# Altium footprint library D.PcbLib: 43 footprints (part 3 of 3)
Each footprint in its own frame and in the unit in brackets; x right, y up, seen from the top. Pads: shape width x height; smd on the part's side, far side on the other; paste and mask are expansions set on the pad; w line width, h text height; cw(c..) or ccw(c..) is an arc to the next point about the centre after c.
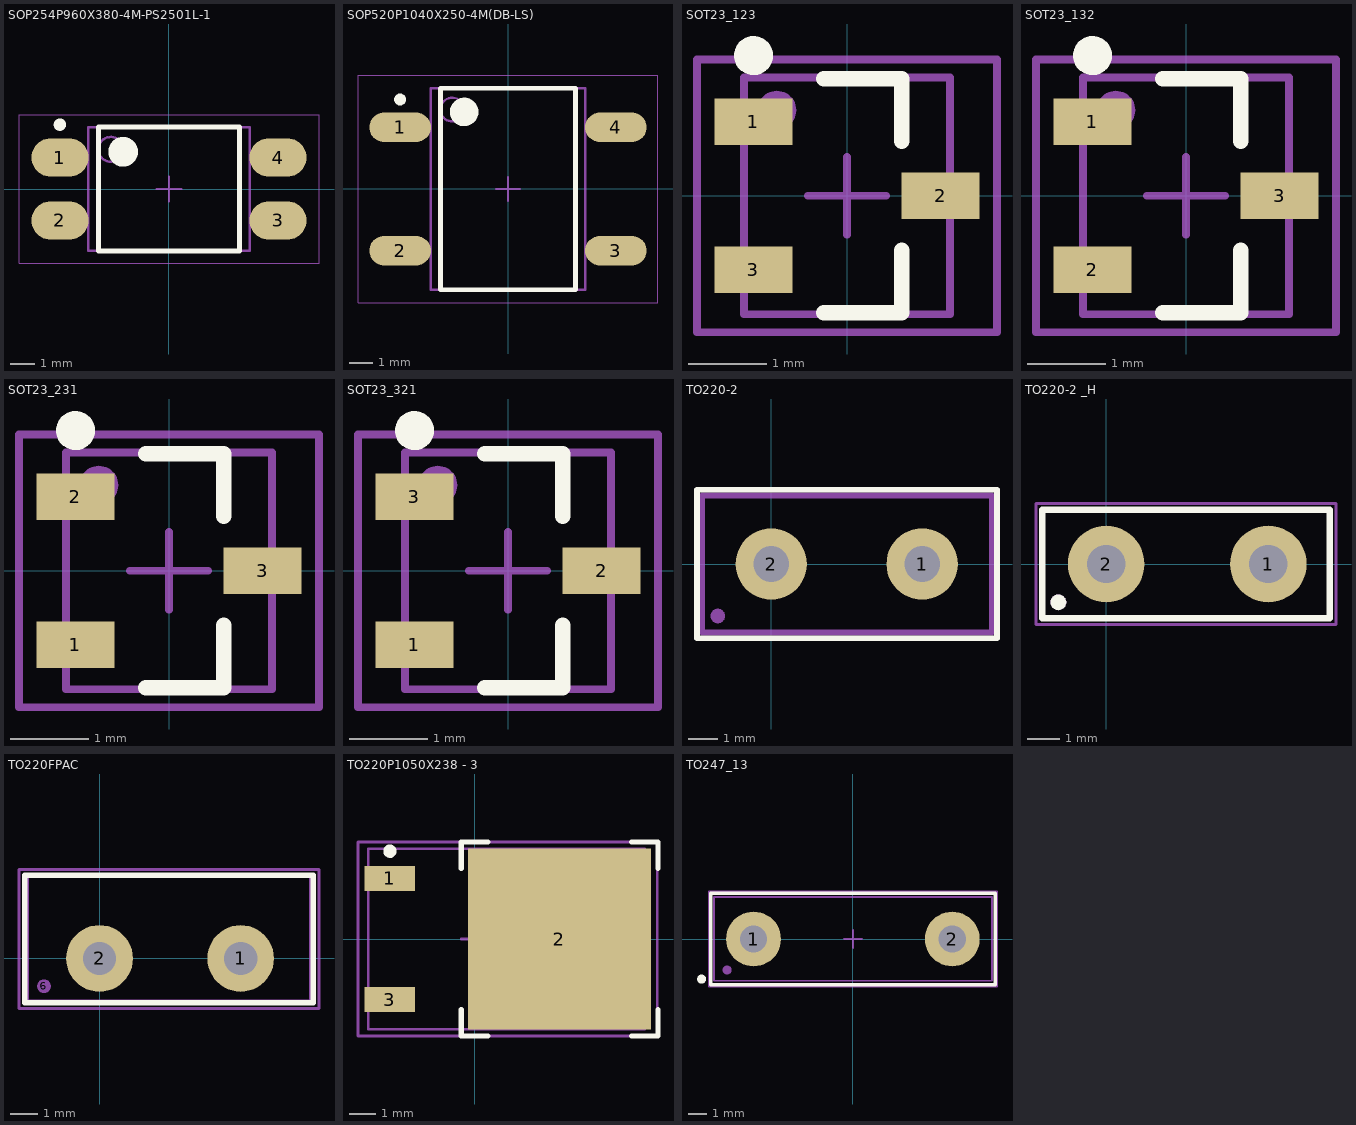
[diagram p2: the footprints below, top view; thin cyan lines are the x and y axes]

## SOP254P960X380-4M-PS2501L-1 [mm] "SOP, 4-Leads, Body 4,60x6,50mm, Pitch 2,54mm, IPC Low Density"
height 3.8
pads (4):
  oval 2.3x1.55 smd: 1(-4.4,1.27) 2(-4.4,-1.27) 3(4.4,-1.27) 4(4.4,1.27)
Top Overlay:
  circle w0.6: c-1.85,1.5 r0.3
  circle w0.25: c-4.4,2.595 r0.125
  lines w0.2: -2.85,-2.5 2.85,-2.5 2.85,2.5 -2.85,2.5 -2.85,-2.5
3D:
  circle w0.1: c-2.35,1.6 r0.5
  lines w0.1: -3.25,-2.5 3.25,-2.5 3.25,2.5 -3.25,2.5 -3.25,-2.5
Border:
  lines w0.05: -6.05,-3 6.05,-3 6.05,3 -6.05,3 -6.05,-3
  lines w0.1: -0.5,0 0.5,0 ; 0,-0.5 0,0.5
3D body: height 3.8, standoff 0.05, extent -3.25,-2.5 3.25,2.5

## SOP520P1040X250-4M(DB-LS) [mm] "SOP, 4-Leads, Body 8,51x6,50mm, Pitch 5,20mm, IPC Low Density"
height 2.5
pads (4):
  oval 2.6x1.25 smd: 1(-4.55,2.6) 2(-4.55,-2.6) 3(4.55,-2.6) 4(4.55,2.6)
Top Overlay:
  circle w0.6: c-1.85,3.25 r0.3
  circle w0.25: c-4.55,3.775 r0.125
  lines w0.2: -2.85,-4.25 2.85,-4.25 2.85,4.25 -2.85,4.25 -2.85,-4.25
3D:
  circle w0.1: c-2.35,3.35 r0.5
  lines w0.1: -3.25,-4.25 3.25,-4.25 3.25,4.25 -3.25,4.25 -3.25,-4.25
Border:
  lines w0.05: -6.325,-4.8 6.325,-4.8 6.325,4.8 -6.325,4.8 -6.325,-4.8
  lines w0.1: -0.5,0 0.5,0 ; 0,-0.5 0,0.5
3D body: height 2.5, standoff 0.2, extent -3.25,-4.25 3.25,4.25

## SOT23_123 [mm] "SOT23, 3-Leads, Body 3,0x2,6mm (max), Pitch 0,95mm, IPC Medium Density"
height 1.1
pads (4):
  rect 1x0.6 smd: 1(-1.2,0.95) 2(1.2,0) 3(-1.2,-0.95)
  round 0.5 on Mech1: ""(-0.9,1.1)
Top Overlay:
  circle w0.25: c-1.2,1.8 r0.125
  lines w0.2: -0.3,-1.5 0.7,-1.5 0.7,-0.7 ; -0.3,1.5 0.7,1.5 0.7,0.7
TopAssy:
  lines w0.1: -1.32,-1.52 1.32,-1.52 1.32,1.52 -1.32,1.52 -1.32,-1.52
Border:
  lines w0.1: -0.5,0 0.5,0 ; 0,-0.5 0,0.5 ; -1.925,-1.75 -1.925,1.75 1.925,1.75 1.925,-1.75 -1.925,-1.75
3D body "SOT95P237X112-3N.step": height 1.12, standoff 0, extent -1.32,-1.52 1.32,1.52

## SOT23_132 [mm] "SOT23, 3-Leads, Body 3,0x2,6mm (max), Pitch 0,95mm, IPC Medium Density"
height 1.1
pads (4):
  rect 1x0.6 smd: 1(-1.2,0.95) 2(-1.2,-0.95) 3(1.2,0)
  round 0.5 on Mech1: ""(-0.9,1.1)
Top Overlay:
  circle w0.25: c-1.2,1.8 r0.125
  lines w0.2: -0.3,-1.5 0.7,-1.5 0.7,-0.7 ; -0.3,1.5 0.7,1.5 0.7,0.7
TopAssy:
  lines w0.1: -1.32,-1.52 -1.32,1.52 1.32,1.52 1.32,-1.52 -1.32,-1.52
Border:
  lines w0.1: -0.5,0 0.5,0 ; 0,-0.5 0,0.5 ; -1.925,-1.75 1.925,-1.75 1.925,1.75 -1.925,1.75 -1.925,-1.75
3D body "SOT95P237X112-3N.step": height 1.12, standoff 0, extent -1.32,-1.52 1.32,1.52

## SOT23_231 [mm] "SOT23, 3-Leads, Body 3,0x2,6mm (max), Pitch 0,95mm, IPC Medium Density"
height 1.1
pads (4):
  rect 1x0.6 smd: 1(-1.2,-0.95) 2(-1.2,0.95) 3(1.2,0)
  round 0.5 on Mech1: ""(-0.9,1.1)
Top Overlay:
  circle w0.25: c-1.2,1.8 r0.125
  lines w0.2: -0.3,-1.5 0.7,-1.5 0.7,-0.7 ; -0.3,1.5 0.7,1.5 0.7,0.7
TopAssy:
  lines w0.1: -1.32,-1.52 1.32,-1.52 1.32,1.52 -1.32,1.52 -1.32,-1.52
Border:
  lines w0.1: -0.5,0 0.5,0 ; 0,-0.5 0,0.5 ; -1.925,-1.75 -1.925,1.75 1.925,1.75 1.925,-1.75 -1.925,-1.75
3D body "SOT95P237X112-3N.step": height 1.12, standoff 0, extent -1.32,-1.52 1.32,1.52

## SOT23_321 [mm] "SOT23, 3-Leads, Body 3,0x2,6mm (max), Pitch 0,95mm, IPC Medium Density"
height 1.1
pads (4):
  rect 1x0.6 smd: 1(-1.2,-0.95) 2(1.2,0) 3(-1.2,0.95)
  round 0.5 on Mech1: ""(-0.9,1.1)
Top Overlay:
  circle w0.25: c-1.2,1.8 r0.125
  lines w0.2: -0.3,-1.5 0.7,-1.5 0.7,-0.7 ; -0.3,1.5 0.7,1.5 0.7,0.7
TopAssy:
  lines w0.1: -1.32,-1.52 1.32,-1.52 1.32,1.52 -1.32,1.52 -1.32,-1.52
Border:
  lines w0.1: -0.5,0 0.5,0 ; 0,-0.5 0,0.5 ; -1.925,-1.75 -1.925,1.75 1.925,1.75 1.925,-1.75 -1.925,-1.75
3D body "SOT95P237X112-3N.step": height 1.12, standoff 0, extent -1.32,-1.52 1.32,1.52

## TO220-2 [mm]
pads (3):
  round 2.4 hole 1.2: 1(5.08,0) 2(0,0)
  round 0.5 on Mech1: ""(-1.8,-1.75)
Top Overlay:
  lines w0.2: -2.5,-2.5 -2.5,2.5 7.6,2.5 7.6,-2.5 -2.5,-2.5
TopAssy:
  lines w0.1: -2.276,-2.25 -2.276,2.25 7.376,2.25 7.376,-2.25 -2.276,-2.25
Border:
  lines w0.1: -2.35,-2.35 -2.35,2.35 7.45,2.35 7.45,-2.35 -2.35,-2.35
3D body "User Library-TO 220-2.STEP": height 20.3, standoff -8.08, extent -2.276,-2.25 7.376,2.25

## TO220-2 _H [mm]
pads (4):
  round 2.4 hole 1.2: 1(5.08,0) 2(0,0)
  round 0.5 on Mech1: ""(-1.5,-1.2)
  round 0.5 on Top Overlay: ""(-1.5,-1.2)
Top Overlay:
  lines w0.2: -2,-1.7 -2,1.7 7,1.7 7,-1.7 -2,-1.7
TopAssy:
  lines w0.1: -2,-1.7 -2,1.7 7,1.7 7,-1.7 -2,-1.7
Border:
  lines w0.1: -2.2,-1.9 -2.2,1.9 7.2,1.9 7.2,-1.9 -2.2,-1.9
3D body "User Library-TO220-2_OR-INV.STEP": height 0.72, standoff -7.5, extent -2.45,-0.4 7.55,20.2

## TO220FPAC [mm]
pads (3):
  round 2.4 hole 1.2: 1(5.08,0) 2(0,0)
  round 0.5 on Mech1: 6(-2,-1)
Top Overlay:
  lines w0.2: -2.7,-1.6 7.7,-1.6 7.7,3 -2.7,3 -2.7,-1.6
TopAssy:
  lines w0.1: -2.59,-1.533 7.59,-1.533 7.59,2.977 -2.59,2.977 -2.59,-1.533
Border:
  lines w0.1: -2.9,-1.8 -2.9,3.2 7.9,3.2 7.9,-1.8 -2.9,-1.8
3D body "TO-220FPAC.stp": height 21.15, standoff -8.45, extent -2.59,-1.533 7.59,2.977

## TO220P1050X238 - 3 [mm] "D2-PAK, 3-Pads, Body 6,2x6,7mm (max), IPC Medium Density"
height 2.38
pads (3):
  rect 1.9x0.95 smd: 1(-3.191,2.28) 3(-3.191,-2.28)
  rect 6.9x6.8 smd: 2(3.191,0)
Top Overlay:
  circle w0.25: c-3.191,3.305 r0.125
  lines w0.2: -0.5,-2.65 -0.5,-3.65 0.5,-3.65 ; -0.5,2.65 -0.5,3.65 0.5,3.65 ; 5.9,-3.65 6.9,-3.65 6.9,-2.65 ; 5.9,3.65 6.9,3.65 6.9,2.65
TopAssy:
  lines w0.1: -4,-3.4 6.4,-3.4 6.4,3.4 -4,3.4 -4,-3.4
Border:
  lines w0.1: -0.5,0 0.5,0 ; 0,-0.5 0,0.5 ; -4.391,-3.65 6.874,-3.65 6.874,3.65 -4.391,3.65 -4.391,-3.65
3D body "D2PAK.step": height 2.39, standoff 0, extent -4.019,-3.365 6.428,3.365

## TO247_13 [mm] "3-Lead Plastic TO-247"
height 20
pads (4):
  round 3 hole 1.5: 1(-5.45,0) 2(5.45,0)
  round 0.5 on Top Overlay: ""(-8.3,-2.2)
  round 0.5 on Mech1: ""(-6.9,-1.7)
Top Overlay:
  lines w0.2: -7.8,-2.5 7.8,-2.5 7.8,2.5 -7.8,2.5 -7.8,-2.5
TopAssy:
  lines w0.1: -7.62,-2.286 7.62,-2.286 7.62,2.311 -7.62,2.311 -7.62,-2.286
Border:
  lines w0.1: -0.5,0 0.5,0 ; 0,-0.5 0,0.5 ; -7.9,-2.6 -7.9,2.6 7.9,2.6 7.9,-2.6 -7.9,-2.6
3D body "User Library-TO-247-2_PIN.STEP": height 24.33, standoff -11.73, extent -7.62,-2.286 7.62,2.311